# Altium schematic symbol library TP.SchLib: 1 symbol
Pins are listed as number, name and electrical type; pins without a type are passive.

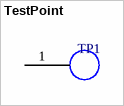
[diagram p0: symbol TestPoint]

## TestPoint
designator TP1, comment TP_1  (value not drawn)  (no BOM)
pins: 1